# EAGLE library part STL130N4LF8 (library STL130N4LF8)
N-channel logic level 40 V, 2.3 m max., 124 A, STripFET F8 Power MOSFET in a PowerFLAT 3.3x3.3 package Source: Datasheet <https://www.st.com/resource/en/datasheet/stl130n4lf8.pdf>
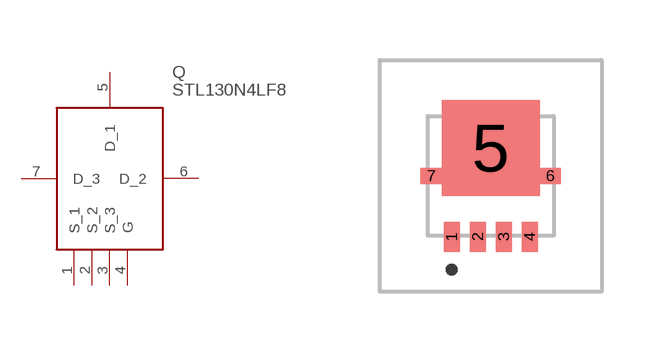
[diagram p0: symbol with the pads of STL9P4LF6AG; footprint STL9P4LF6AG]

Designator prefix Q

## STL130N4LF8 (Description: N-channel logic level 40 V, 2.3 m max., 124 A, STripFET F8 Power MOSFET in a PowerFLAT 3.3x3.3 package; Height: mm; Manufacturer_Name: STMicroelectronics; Manufacturer_Part_Number: STL130N4LF8)  [STL9P4LF6AG]
1  S_1
2  S_2
3  S_3
4  G
5  D_1
6  D_2
7  D_3

## Footprint STL9P4LF6AG (pad centres in mm)
PowerFLAT 3.3x3.3
smd 0.4 x 0.75: 1 -0.975,-1.525; 2 -0.325,-1.525; 3 0.325,-1.525; 4 0.975,-1.525
smd 2.45 x 2.4: 5 0,0.7
smd 0.53 x 0.4: 6 1.49,0; 7 -1.49,0